# Altium footprint library connectors.PcbLib: 53 footprints (part 3 of 4)
Each footprint in its own frame and in the unit in brackets; x right, y up, seen from the top. Pads: shape width x height; smd on the part's side, far side on the other; paste and mask are expansions set on the pad; w line width, h text height; cw(c..) or ccw(c..) is an arc to the next point about the centre after c.
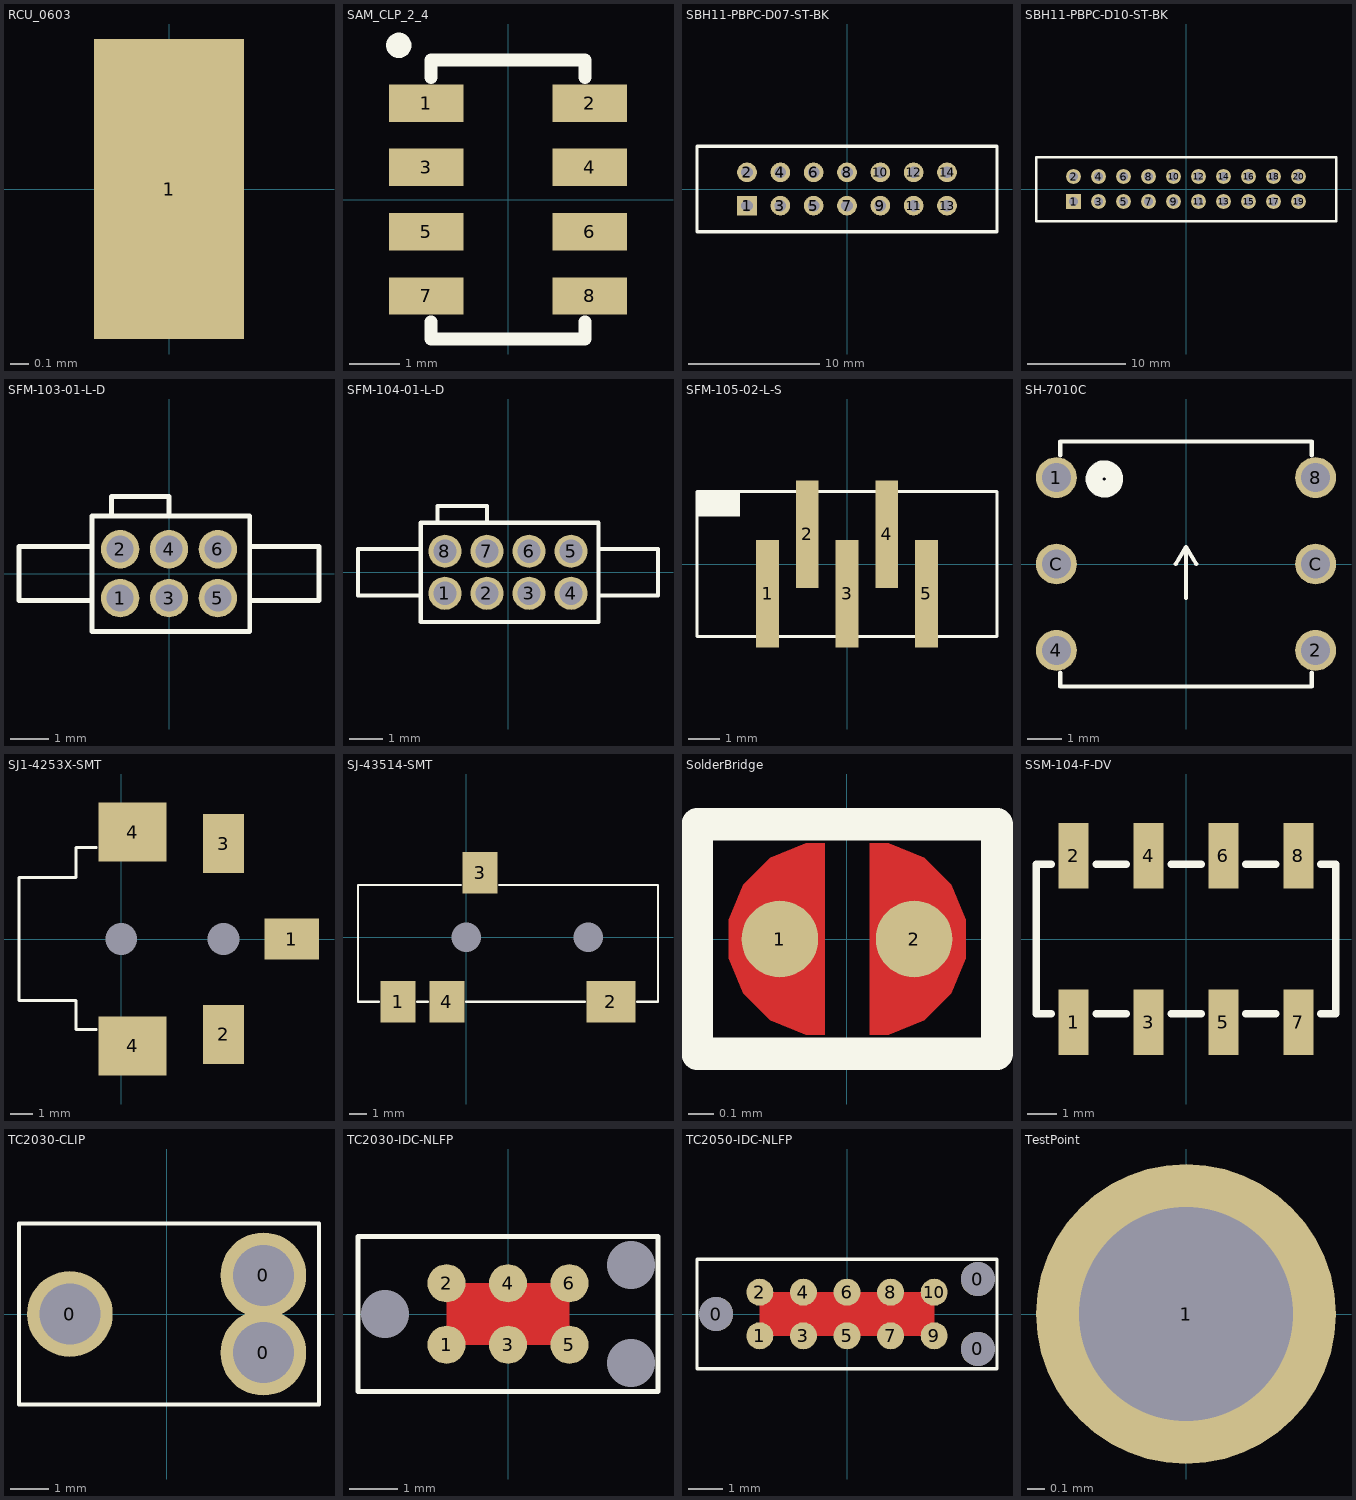
[diagram p2: the footprints below, top view; thin cyan lines are the x and y axes]

## RCU_0603 [mm]
pads (1):
  rect 0.8x1.6 smd: 1(0,0)
3D body: height 0.92, standoff 0.23, extent -0.4,-0.8 0.4,-0.575
3D body: height 0.92, standoff 0.23, extent -0.4,0.575 0.4,0.8
3D body: height 1.15, standoff 0.92, extent -0.4,-0.8 0.4,0.8
3D body: height 0.23, standoff 0, extent -0.4,-0.8 0.4,0.8

## SAM_CLP_2_4 [mm]
pads (8):
  rect 1.47x0.74 smd: 1(-1.615,1.905) 2(1.615,1.905) 3(-1.615,0.635) 4(1.615,0.635) 5(-1.615,-0.635) 6(1.615,-0.635) 7(-1.615,-1.905) 8(1.615,-1.905)
Top Overlay:
  circle w0.25: c-2.157,3.048 r0.125
  lines w0.254: -1.525,-2.413 -1.525,-2.755 1.525,-2.755 1.525,-2.413 ; -1.525,2.413 -1.525,2.755 1.525,2.755 1.525,2.413
3D body: height 2.29, standoff 0.25, extent -1.525,-2.755 1.525,2.755

## SBH11-PBPC-D07-ST-BK [mm] "CONN HEADER 2.54MM 14POS"
pads (14):
  rect 1.5x1.5 hole 0.9: 1(-7.62,-1.27)
  round 1.5 hole 0.9: 2(-7.62,1.27) 3(-5.08,-1.27) 4(-5.08,1.27) 5(-2.54,-1.27) 6(-2.54,1.27) 7(0,-1.27) 8(0,1.27) 9(2.54,-1.27) 10(2.54,1.27) 11(5.08,-1.27) 12(5.08,1.27) 13(7.62,-1.27) 14(7.62,1.27)
Top Overlay:
  lines w0.254: -11.43,-3.251 11.43,-3.251 11.43,3.251 -11.43,3.251 -11.43,-3.251
3D body: height 2, standoff 0, extent -11.43,-3.251 11.43,3.251
3D body: height 10.11, standoff -3.2, extent -7.823,-1.473 -7.417,-1.067
3D body: height 10.11, standoff -3.2, extent -5.283,-1.473 -4.877,-1.067
3D body: height 10.11, standoff -3.2, extent -7.823,1.067 -7.417,1.473
3D body: height 10.11, standoff -3.2, extent -5.283,1.067 -4.877,1.473
3D body: height 10.11, standoff -3.2, extent -2.743,1.067 -2.337,1.473
3D body: height 10.11, standoff -3.2, extent -2.743,-1.473 -2.337,-1.067
3D body: height 10.11, standoff -3.2, extent -0.203,-1.473 0.203,-1.067
3D body: height 10.11, standoff -3.2, extent -0.203,1.067 0.203,1.473
3D body: height 10.11, standoff -3.2, extent 2.337,1.067 2.743,1.473
3D body: height 10.11, standoff -3.2, extent 2.337,-1.473 2.743,-1.067
3D body: height 10.11, standoff -3.2, extent 4.877,-1.473 5.283,-1.067
3D body: height 10.11, standoff -3.2, extent 4.877,1.067 5.283,1.473
3D body: height 10.11, standoff -3.2, extent 7.417,1.067 7.823,1.473
3D body: height 10.11, standoff -3.2, extent 7.417,-1.473 7.823,-1.067
3D body: height 10.74, standoff 0, extent -11.43,-3.251 -11.049,3.251
3D body: height 10.74, standoff 0, extent 11.049,-3.251 11.43,3.251
3D body: height 10.74, standoff 0, extent -11.43,2.87 11.43,3.251
3D body: height 10.74, standoff 0, extent -11.43,-3.251 -2.54,-2.87
3D body: height 10.74, standoff 0, extent 2.54,-3.251 11.43,-2.87

## SBH11-PBPC-D10-ST-BK [mm] "CONN HEADER 2.54MM 20POS"
pads (20):
  rect 1.5x1.5 hole 0.9: 1(-11.43,-1.27)
  round 1.5 hole 0.9: 2(-11.43,1.27) 3(-8.89,-1.27) 4(-8.89,1.27) 5(-6.35,-1.27) 6(-6.35,1.27) 7(-3.81,-1.27) 8(-3.81,1.27) 9(-1.27,-1.27) 10(-1.27,1.27) 11(1.27,-1.27) 12(1.27,1.27) 13(3.81,-1.27) 14(3.81,1.27) 15(6.35,-1.27) 16(6.35,1.27) 17(8.89,-1.27) 18(8.89,1.27) 19(11.43,-1.27) 20(11.43,1.27)
Top Overlay:
  lines w0.254: -15.24,-3.251 -15.24,3.251 15.24,3.251 15.24,-3.251 -15.24,-3.251
3D body: height 10.74, standoff 0, extent -15.24,-3.251 -14.859,3.251
3D body: height 10.74, standoff 0, extent 14.859,-3.251 15.24,3.251
3D body: height 10.74, standoff 0, extent 2.54,-3.251 15.24,-2.87
3D body: height 10.74, standoff 0, extent -15.24,-3.251 -2.54,-2.87
3D body: height 10.74, standoff 0, extent -15.24,2.87 15.24,3.251
3D body: height 10.11, standoff -3.2, extent 11.227,-1.473 11.633,-1.067
3D body: height 10.11, standoff -3.2, extent 11.227,1.067 11.633,1.473
3D body: height 10.11, standoff -3.2, extent 8.687,1.067 9.093,1.473
3D body: height 10.11, standoff -3.2, extent 8.687,-1.473 9.093,-1.067
3D body: height 10.11, standoff -3.2, extent 6.147,1.067 6.553,1.473
3D body: height 10.11, standoff -3.2, extent 6.147,-1.473 6.553,-1.067
3D body: height 2, standoff 0, extent -15.24,-3.251 15.24,3.251
3D body: height 10.11, standoff -3.2, extent 3.607,-1.473 4.013,-1.067
3D body: height 10.11, standoff -3.2, extent 3.607,1.067 4.013,1.473
3D body: height 10.11, standoff -3.2, extent 1.067,1.067 1.473,1.473
3D body: height 10.11, standoff -3.2, extent 1.067,-1.473 1.473,-1.067
3D body: height 10.11, standoff -3.2, extent -1.473,-1.473 -1.067,-1.067
3D body: height 10.11, standoff -3.2, extent -1.473,1.067 -1.067,1.473
3D body: height 10.11, standoff -3.2, extent -4.013,1.067 -3.607,1.473
3D body: height 10.11, standoff -3.2, extent -4.013,-1.473 -3.607,-1.067
3D body: height 10.11, standoff -3.2, extent -6.553,-1.473 -6.147,-1.067
3D body: height 10.11, standoff -3.2, extent -6.553,1.067 -6.147,1.473
3D body: height 10.11, standoff -3.2, extent -9.093,1.067 -8.687,1.473
3D body: height 10.11, standoff -3.2, extent -11.633,1.067 -11.227,1.473
3D body: height 10.11, standoff -3.2, extent -9.093,-1.473 -8.687,-1.067
3D body: height 10.11, standoff -3.2, extent -11.633,-1.473 -11.227,-1.067

## SFM-103-01-L-D [mm] "Samtec throughhole tiger eye socket, 2 row 6 pos"
pads (6):
  round 1 hole 0.7: 1(-1.27,-0.635) 2(-1.27,0.635) 3(0,-0.635) 4(0,0.635) 5(1.27,-0.635) 6(1.27,0.635)
Top Overlay:
  lines w0.127: -2,-0.7 -3.9,-0.7 -3.9,0.7 -2,0.7 ; -1.5,1.5 -1.5,2 0,2 0,1.5 ; 2.1,-0.7 3.9,-0.7 3.9,0.7 2.1,0.7 ; -2,-1.5 -2,1.5 2.1,1.5 2.1,-1 2.1,-1.5 -2,-1.5
3D body "SFM-103-01-L-D.stp": height 4.57, standoff -3.05, extent -3.873,-1.524 3.874,2.159

## SFM-104-01-L-D [mm] "Samtec throughhole tiger eye socket, 2 row 8 pos"
pads (8):
  round 1 hole 0.7: 1(-1.905,-0.635) 2(-0.635,-0.635) 3(0.635,-0.635) 4(1.905,-0.635) 5(1.905,0.635) 6(0.635,0.635) 7(-0.635,0.635) 8(-1.905,0.635)
Top Overlay:
  lines w0.127: -2.635,-0.7 -4.535,-0.7 -4.535,0.7 -2.635,0.7 ; -2.135,1.5 -2.135,2 -0.635,2 -0.635,1.5 ; 2.725,-1.5 -2.635,-1.5 -2.635,1.5 2.725,1.5 ; 2.735,-1.5 2.735,-1 2.735,1.5 ; 2.735,-0.7 4.535,-0.7 4.535,0.7 2.735,0.7
3D body "SFM-104-01-S-D.stp": height 4.57, standoff -3.05, extent -4.518,-1.524 4.499,2.159

## SFM-105-02-L-S [mm] "Samtec TFM, single row, 5 pos"
pads (5):
  rect 0.73x3.43 smd: 1(-2.54,-0.95) 2(-1.27,0.95) 3(0,-0.95) 4(1.27,0.95) 5(2.54,-0.95)
Top Overlay:
  rectangle: -4.8,1.524 -3.429,2.325
  lines w0.1: -4.8,-2.325 4.8,-2.325 4.8,2.325 -4.8,2.325 -4.8,-2.325
3D body: height 4.57, standoff 0.38, extent -3.375,0.9 -1.35,1.525
3D body: height 4.57, standoff 0.38, extent -3.375,-0.9 3.375,0.9
3D body: height 2.79, standoff 0, extent 3.375,-0.65 5.15,0.65
3D body: height 2.79, standoff 0, extent -5.15,-0.65 -3.375,0.65

## SH-7010C [mm] "Rotary Coded Switch, SH-7000 series, 10 positions, real code, through hole"
pads (6):
  round 1.2 hole 0.85: 1(-3.81,2.54) 2(3.81,-2.54) 4(-3.81,-2.54) 8(3.81,2.54) C(-3.81,0) C(3.81,0)
Top Overlay:
  circle w0.5: c-2.4,2.5 r0.3
  lines w0.127: -3.7,-3.2 -3.7,-3.6 3.7,-3.6 3.7,-3.2 ; -3.7,3.2 -3.7,3.6 3.7,3.6 3.7,3.2 ; -0.3,0 0,0.5 ; 0,-1 0,0.5 ; 0.3,0 0,0.5
3D body "SH-7010MC.stp": height 3.77, standoff -3.45, extent -3.885,-3.65 3.885,3.65

## SJ1-4253X-SMT [mm] "2.5 mm audio jack, 4 connectors"
pads (7):
  rect 2.4x1.8 smd: 1(7.5,0)
  rect 1.8x2.6 smd: 2(4.5,-4.2) 3(4.5,4.2)
  rect 3x2.6 smd: 4(0.5,-4.7) 4(0.5,4.7)
  rect 0x0 hole 1.4 unplated: ""(0,0) ""(4.5,0)
Top Overlay:
  lines w0.127: -1.1,-3.975 -2,-3.975 -2,-2.7 -4.5,-2.7 -4.5,2.7 -2,2.7 -2,4.025 -1.1,4.025
3D body "sj1-42534-smt.stp": height 5, standoff -0.6, extent -4.5,-5.2 8,5.2

## SJ-43514-SMT [mm] "3.5 mm audio jack, 4 connectors"
pads (6):
  rect 2x2.4 smd: 1(-3.9,-3.7) 3(0.8,3.7) 4(-1.1,-3.7)
  rect 2.8x2.4 smd: 2(8.3,-3.7)
  rect 0x0 hole 1.7 unplated: ""(0,0) ""(7,0)
Top Overlay:
  lines w0.127: -5,-3.7 -6.2,-3.7 -6.2,3 -0.3,3 ; -2.8,-3.7 -2.2,-3.7 ; 0,-3.7 6.8,-3.7 ; 1.9,3 11,3 11,-3.7 9.8,-3.7
3D body "sj-43514-smt.stp": height 5.1, standoff -0.7, extent -6.2,-4.5 11,4.5

## SolderBridge [mm]
pads (2):
  round 0.3 smd: 1(-0.263,0) 2(0.263,0)
Top Layer:
  region: 0.09,0.375 0.164,0.375 0.302,0.318 0.408,0.212 0.465,0.075 0.465,-0.075 0.408,-0.212 0.302,-0.318 0.164,-0.375 0.09,-0.375
  region: -0.088,-0.375 -0.162,-0.375 -0.3,-0.318 -0.406,-0.212 -0.463,-0.075 -0.463,0.075 -0.406,0.212 -0.3,0.318 -0.162,0.375 -0.088,0.375
Top Overlay:
  lines w0.127: -0.588,-0.45 0.588,-0.45 0.588,0.45 -0.588,0.45 -0.588,-0.45

## SSM-104-F-DV [mm] "Samtec 100 mil 2x4 female connector"
pads (8):
  rect 1.02x2.22 smd: 1(-3.81,-2.825) 2(-3.81,2.825) 3(-1.27,-2.825) 4(-1.27,2.825) 5(1.27,-2.825) 6(1.27,2.825) 7(3.81,-2.825) 8(3.81,2.825)
Top Overlay:
  lines w0.254: -4.572,-2.54 -5.08,-2.54 -5.08,2.54 -4.572,2.54 ; -3.048,-2.54 -2.032,-2.54 ; -3.048,2.54 -2.032,2.54 ; -0.508,-2.54 0.508,-2.54 ; -0.508,2.54 0.508,2.54 ; 2.032,-2.54 3.048,-2.54 ; 2.032,2.54 3.048,2.54 ; 4.572,-2.54 5.08,-2.54 5.08,2.54 4.572,2.54
3D body: height 7.37, standoff 0, extent -5.08,-2.54 5.08,2.54

## TC2030-CLIP [mm]
pads (3):
  round 2.25 hole 1.6 mask+2: 0(-2.54,0) 0(2.54,-1.016) 0(2.54,1.016)
Top Overlay:
  lines w0.1: -3.875,-2.375 4,-2.375 4,2.375 -3.875,2.375 -3.875,-2.375

## TC2030-IDC-NLFP [mil]
pads (9):
  round 31 smd paste-1181.1: 1(-50,-25) 2(-50,25) 3(0,-25) 4(0,25) 5(50,-25) 6(50,25)
  round 0 hole 39 unplated: ""(-100,0) ""(100,-40) ""(100,40)
Top Layer:
  pour cut-out: -50,25 -50,-25 50,-25 50,25
Top Overlay:
  lines w3.94: -122.05,-62.99 -122.05,62.99 122.05,62.99 122.05,-62.99 -122.05,-62.99

## TC2050-IDC-NLFP [mil]
pads (13):
  round 39 hole 39 unplated: 0(-150,0) 0(150,-40) 0(150,40)
  round 31 smd paste-196.85: 1(-100,-25) 2(-100,25) 3(-50,-25) 4(-50,25) 5(0,-25) 6(0,25) 7(50,-25) 8(50,25) 9(100,-25) 10(100,25)
Top Layer:
  pour cut-out: -100,25 -100,-25 100,-25 100,25
Top Overlay:
  lines w3.94: 171.46,-62.99 -172.05,-62.99 -172.05,62.99 171.46,62.99 ; 172.05,-62.99 172.05,62.99

## TestPoint [mm]
pads (1):
  round 1.68 hole 1.2: 1(0,0)
3D body: height 3.05, standoff 0, extent -1.26,-1.267 1.27,1.268
3D body: height 4.57, standoff 3.3, extent -0.628,-0.632 0.635,0.632